# Altium schematic symbol library SnapEDAsch.SchLib: 1 symbol
Pins are listed as number, name and electrical type; pins without a type are passive.

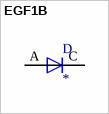
[diagram p0: symbol EGF1B]

## EGF1B
designator D
Diode Standard 100V 1A Surface Mount SMA _DO-214AC_; MP: EGF1B; MF: ON Semiconductor; Package: DO-214AC-214 ON Semiconductor; Value: *; Availability: Unavailable; SnapEDA_Link: https://www.snapeda.com/parts/EGF1B/ON%20Semiconductor/view-part/1790489/?ref=snap; Price: None
footprint DIOM449X264X300L114X135N
pins: A, C